# EAGLE library part NPNPNP (library general)
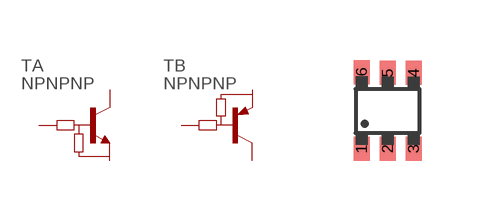
[diagram p2: symbol with the pads of SOT363; footprint SOT363]

Designator prefix T; gates A=NPNR B=PNPR

## NPNPNP  [SOT363]
1  A:E  pas
2  A:B  pas
3  B:C  pas
4  B:E  pas
5  B:B  pas
6  A:C  pas

## Footprint SOT363 (pad centres in mm)
SOT-563 Source: www.centralsemi.com ..SOT-563PD.pdf
smd 0.4 x 0.6: 1 -0.65,-0.95; 2 0,-0.95; 3 0.65,-0.95; 4 0.65,0.95; 5 0,0.95; 6 -0.65,0.97